# Altium footprint library Tu dien.PcbLib: 73 footprints (part 1 of 5)
Each footprint in its own frame and in the unit in brackets; x right, y up, seen from the top. Pads: shape width x height; smd on the part's side, far side on the other; paste and mask are expansions set on the pad; w line width, h text height; cw(c..) or ccw(c..) is an arc to the next point about the centre after c.
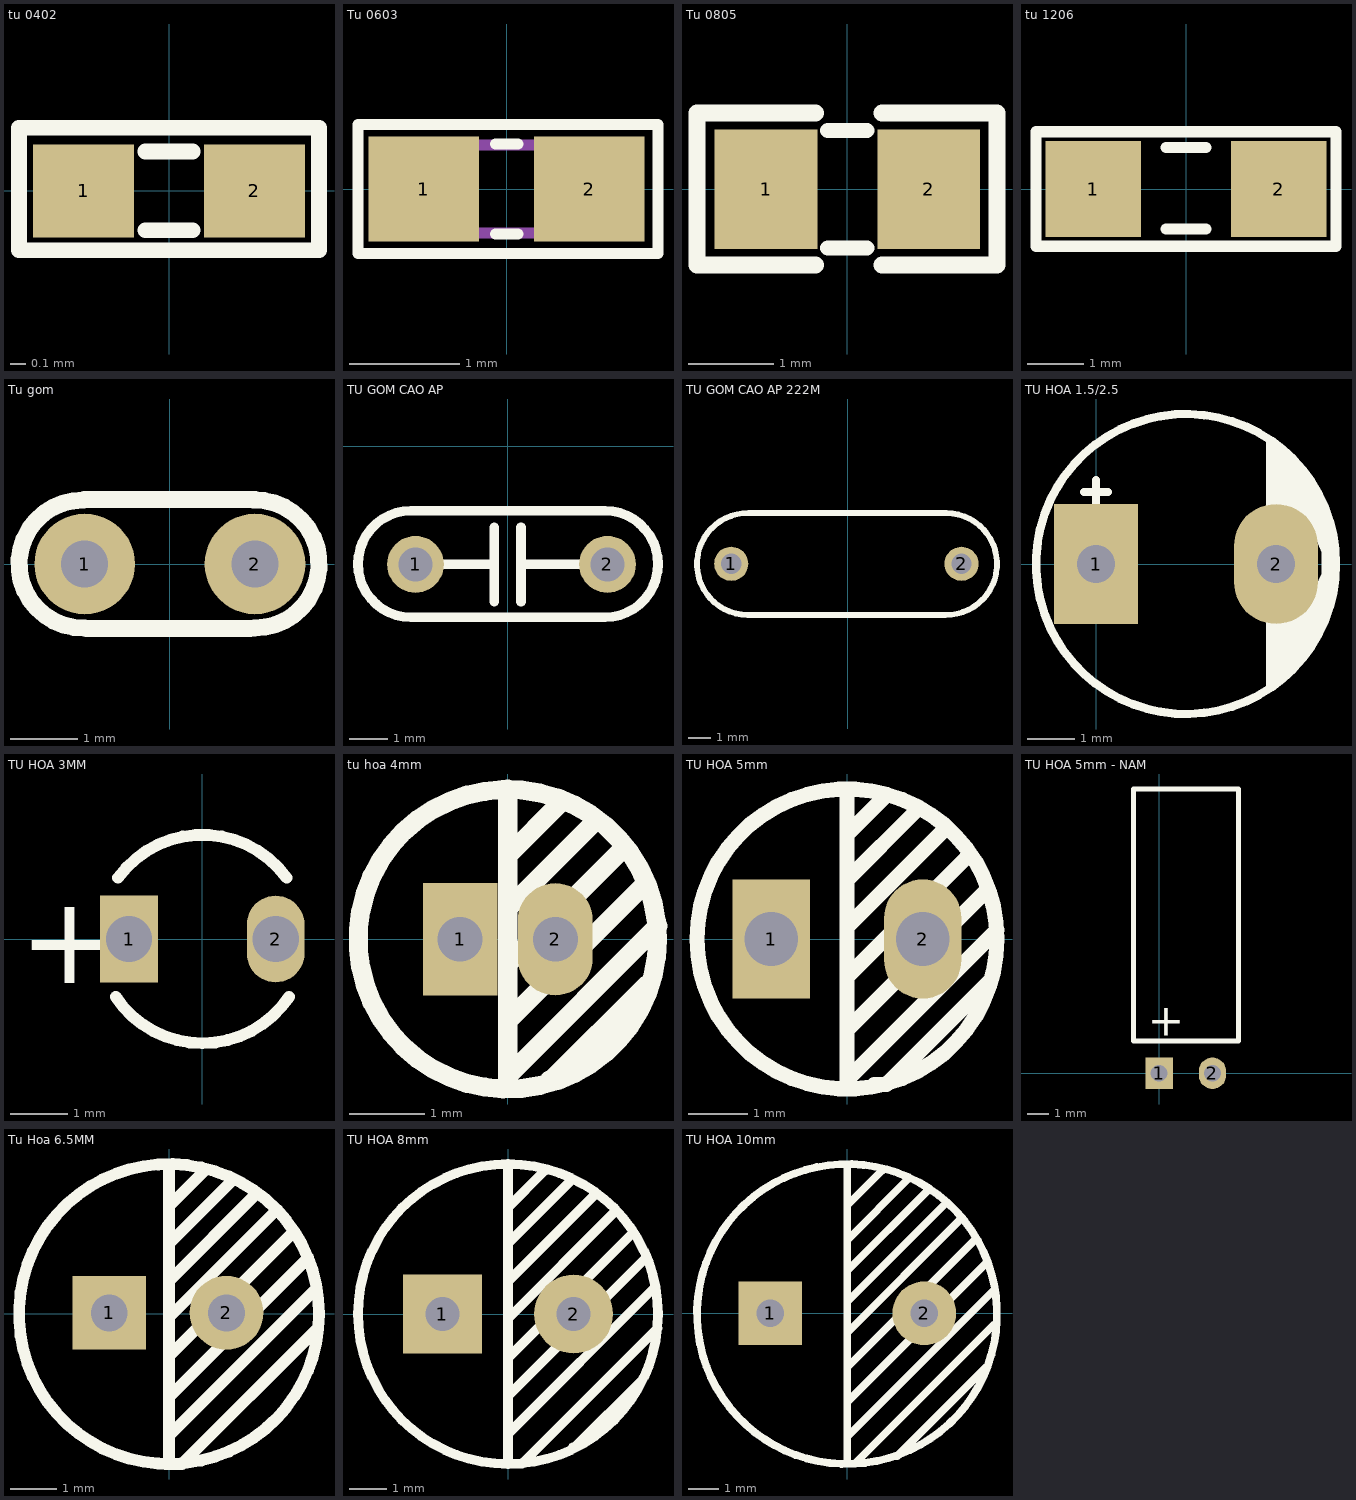
[diagram p0: the footprints below, top view; thin cyan lines are the x and y axes]

## MOV 10D [mm]

## tu 0402 [mm]
pads (2):
  rect 0.65x0.6 smd: 1(-0.55,0) 2(0.55,0)
Top Overlay:
  lines w0.1: -0.152,-0.254 0.152,-0.254 ; -0.152,0.254 0.152,0.254 ; -0.965,-0.381 0.965,-0.381 0.965,0.406 -0.965,0.406 -0.965,-0.381
3D body "capacitor-0402C.step": height 0.35, standoff 0, extent -0.5,-0.265 0.5,0.265

## Tu 0603 [mm] "Chip Capacitor, 2-Leads, Body 1,60x0,80mm, IPC Medium Density"
height 0.5
pads (2):
  rect 1x0.95 smd mask+0.076: 1(-0.75,0) 2(0.75,0)
Top Overlay:
  lines w0.102: -0.102,-0.406 0.102,-0.406 ; -0.102,0.406 0.102,0.406 ; -1.346,-0.584 1.372,-0.584 1.372,0.584 -1.346,0.584 -1.346,-0.584
Mechanical 13:
  lines w0.1: -0.8,-0.4 0.8,-0.4 0.8,0.4 -0.8,0.4 -0.8,-0.4
3D body "User Library-CAPC1608X09.step": height 0.9, standoff 0, extent -0.8,-0.4 0.8,0.4

## Tu 0805 [mm] "Compoment SMD 80x50mil"
height 1.27
pads (2):
  rect 1.2x1.4 smd: 1(-0.946,-0.003) 2(0.954,-0.003)
Top Overlay:
  lines w0.178: -0.224,-0.689 0.233,-0.689 ; -0.224,0.682 0.233,0.682
  lines w0.2: -0.367,-0.889 -1.753,-0.889 -1.753,0.889 -0.367,0.889 ; 0.408,-0.889 1.753,-0.889 1.753,0.889 0.408,0.889
3D body "SW3dPS-smt_resistor_packages.STEP": height 0.61, standoff -0.01, extent -1.006,-0.638 1.014,0.632

## tu 1206 [mm]
pads (2):
  rect 1.7x1.7 smd: 1(-1.65,0) 2(1.65,0)
Top Overlay:
  lines w0.2: -0.356,-0.711 0.356,-0.711 ; -0.356,0.737 0.356,0.737 ; -2.667,-1.016 -2.667,1.016 2.667,1.016 2.667,-0.483 2.667,-1.016 -2.667,-1.016
3D body "capacitor 1206.step": height 0.94, standoff 0, extent -1.575,-0.8 1.625,0.8

## Tu gom [mm] "Tu gom mini"
pads (2):
  round 1.5 hole 0.7: 1(-1.27,0) 2(1.27,0)
Top Overlay:
  lines w0.254: -1.285,0.955 ccw(c-1.295,0) -1.27,-0.954 ; -1.27,0.965 1.27,0.965 ; -1.245,-0.965 1.194,-0.965 ; 1.245,0.954 cw(c1.27,0) 1.259,-0.955
3D body "User Library-Cap 100n.step": height 6.12, standoff -1.8, extent -2.918,-0.848 2.921,0.848

## TU GOM CAO AP [mm] "TU GOM CAO AP"
pads (2):
  round 1.5 hole 0.9: 1(-2.431,-3.119) 2(2.631,-3.119)
Top Overlay:
  lines w0.254: -2.431,-3.119 -0.358,-3.119 ; -0.358,-4.1 -0.358,-2.137 ; 0.352,-4.1 0.352,-2.137 ; 0.352,-3.119 2.631,-3.119 ; -2.561,-4.518 cw(c-2.539,-3.109) -2.557,-1.699 2.577,-1.699 cw(c2.554,-3.109) 2.572,-4.518 -2.561,-4.518
3D body "User Library-Cap 100n.step": height 6.12, standoff -1.8, extent -2.893,-3.973 2.946,-2.277

## TU GOM CAO AP 222M [mm] "TU GOM CAO AP"
pads (2):
  round 1.5 hole 0.9: 1(-5.125,-7.375) 2(5,-7.375)
Top Overlay:
  lines w0.254: -4.409,-9.623 cw(c-4.39,-7.385) -4.356,-5.147 4.342,-5.147 cw(c4.322,-7.385) 4.288,-9.623 -4.409,-9.623

## TU HOA 1.5/2.5 [mil] "Tu hoa 33 >100 uF,50V, 220uF/16V,25V ( it su dung )"
height 300
pads (2):
  rect 70x100 hole 32: 1(0,0)
  oval 70x100 hole 32: 2(150,0)
Top Overlay:
  circle w7: c75,0 r125
  region: 142,106 142,39 156,39 173,35 182,25 188,10 188,-8 183,-19 183,-19.53 171,-33 155,-38 142,-41 142,-107 156,-96 177,-72 194,-40 199,-14 200,0 198,24 189,50 175,74 160,93
  lines w7: -10,60 10,60 ; 0,50 0,70
3D body "User Library-Cap 6_3x11.STEP": height 433.67, standoff -747.43, extent -46,-121.02 202.03,127.02

## TU HOA 3MM [mm]
pads (2):
  rect 1x1.5 hole 0.8: 1(-1.27,0)
  oval 1x1.5 hole 0.8: 2(1.27,0)
Top Overlay:
  lines w0.203: -1.502,-1.001 ccw(c0,0) 1.502,-1.001 ; -1.46,1.062 cw(c0,0) 1.46,1.062
  text "+" at -3.175,-0.762 h1.52
3D body "User Library-Capacitor Radial Electrolitic-150-400x700.step": height 7.01, standoff -2.7, extent -2,-2.025 1.993,1.975

## tu hoa 4mm [mm]
pads (2):
  rect 1x1.5 hole 0.6: 1(-0.635,0)
  oval 1x1.5 hole 0.6: 2(0.635,0)
Top Overlay:
  circle w0.254: c0,0 r2
  lines w0.254: 0,-1.956 0,2.007 ; 0,-1.803 0.025,-1.803 2.007,0.178 ; 0,-1.27 0,-1.092 1.829,0.737 ; 0,-0.381 0,-0.33 1.549,1.219 ; 0,0.279 0,0.406 1.143,1.549 ; 0,0.94 0,1.118 0.711,1.829 ; 0.559,-1.88 0.584,-1.88 1.854,-0.61
3D body "Cap electro 5x11x2mm.step": height 14.81, standoff 0.01, extent -2.474,-2.474 2.576,2.576

## TU HOA 5mm [mm]
pads (2):
  rect 1.3x2 hole 0.9: 1(-1.27,0)
  oval 1.3x2 hole 0.9: 2(1.27,0)
Top Overlay:
  circle w0.254: c0,0 r2.515
  lines w0.254: 0,-2.489 0,2.515 ; 0,-2.362 2.515,0.152 ; 0,-1.549 0,-1.524 2.362,0.838 ; 0,-0.737 0,-0.635 2.007,1.372 ; 0,0.203 1.651,1.854 ; 0,0.965 0,0.991 1.168,2.159 ; 0,1.727 0,1.321 0,1.753 0.61,2.362 ; 0.457,-2.438 0.66,-2.438 2.388,-0.711
3D body "Cap electro 6_3x11x2_5mm.step": height 11.33, standoff -3.21, extent -3.125,-3.175 3.226,3.175

## TU HOA 5mm - NAM [mm]
pads (2):
  rect 1.3x1.5 hole 0.8: 1(0,0)
  oval 1.3x1.5 hole 0.8: 2(2.54,0)
Top Overlay:
  lines w0.254: -1.219,1.537 3.781,1.537 3.781,13.537 -1.219,13.537 -1.219,1.537
  text "+" at -0.533,1.791 h1.52

## Tu Hoa 6.5MM [mm]
pads (2):
  rect 1.6x1.6 hole 0.8: 1(-1.295,0.025)
  round 1.6 hole 0.8: 2(1.245,0.025)
Top Overlay:
  circle w0.254: c0,0 r3.25
  lines w0.254: -0.076,-3.251 0.279,-3.251 3.2,-0.33 ; 0,-3.2 0,3.175 ; 0,-2.642 3.15,0.508 ; 0,-1.905 0,-1.803 2.997,1.194 ; 0,-0.965 0,-0.914 2.667,1.753 ; 0,-0.152 0,-0.076 2.286,2.21 ; 0,0.559 0,0.711 1.88,2.591 ; 0,1.473 0,1.524 1.346,2.87 ; 0,2.108 0,2.337 0.762,3.099 ; 0,2.134 0,2.388
3D body "Cap electro 6_3x11x2_5mm.step": height 14.55, standoff 0.01, extent -3.15,-3.15 3.201,3.201

## TU HOA 8mm [mm]
pads (2):
  rect 2.1x2.1 hole 0.9: 1(-1.75,0)
  round 2.1 hole 0.9: 2(1.75,0)
Top Overlay:
  circle w0.254: c0,0 r4
  lines w0.254: 0,-4 0,4 ; 0,-3.2 3.886,0.686 ; 0,-2.184 3.683,1.499 ; 0,-1.372 0,-1.168 3.327,2.159 ; 0,-0.584 0,-0.127 2.87,2.743 ; 0,0.559 0,0.864 2.311,3.175 ; 0,1.295 0,1.88 1.676,3.556 ; 0,2.642 0,2.845 0.965,3.81 ; 0.051,-3.988 0.381,-3.988 3.988,-0.381 ; 1.727,-3.556 1.778,-3.556 3.581,-1.753
3D body "Cap electro 8x10.step": height 13.81, standoff -3.49, extent -4.1,-4.075 4.1,4.125

## TU HOA 10mm [mm]
pads (2):
  rect 2.1x2.1 hole 0.9: 1(-2.54,0)
  round 2.1 hole 0.9: 2(2.54,0)
Top Overlay:
  lines w0.254: 0,-4.064 4.826,0.762 ; 0,-3.302 0,-2.921 4.572,1.651 ; 0,-1.905 0,-1.778 4.191,2.413 ; 0,-1.143 0,-0.635 3.683,3.048 ; 0,0.254 0,0.381 3.175,3.556 ; 0,1.397 2.667,4.064 ; 0,1.905 0,2.413 2.032,4.445 ; 0,2.921 0,3.556 1.143,4.699 ; 0,4.826 0,-4.953 0.254,-4.953 4.826,-0.381 ; 1.651,-4.699 4.572,-1.778 ; 3.591,3.365 ccw(c-0.008,-0.022) 3.623,3.33
3D body "User Library-Capacitor Radial Electrolitic 500-1000x2000.step": height 20.01, standoff -2.7, extent -5,-5 4.967,5